# Altium schematic symbol library Schlib1.SchLib: 4 symbols
Pins are listed as number, name and electrical type; pins without a type are passive.

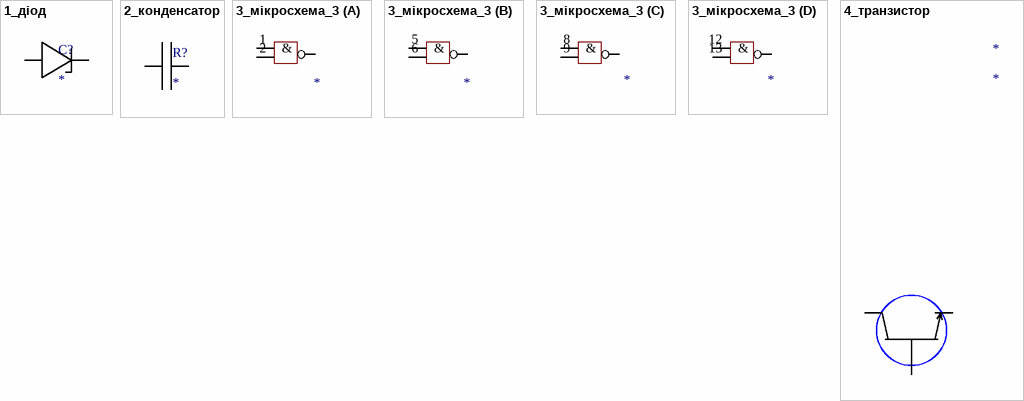
[diagram p0: symbols 1_діод to 4_транзистор]

## 1_діод
designator C?
footprint Diode
pins: A, K

## 2_конденсатор
designator R?
resistance: 10-15нФ
footprint Capacitor
pins: 1, 2

## 3_мікросхема_3
designator D
footprint DIP14
part A pins: 1 &, 2, A
part B pins: 5 &, 6, B
part C pins: 8 &, 9, C
part D pins: 12 &, 13, D

## 4_транзистор
designator *
footprint Transistor
pins: B, C, E